# Altium schematic symbol library KXG1201C.SchLib: 1 symbol
Pins are listed as number, name and electrical type; pins without a type are passive.

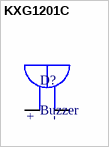
[diagram p0: symbol KXG1201C]

## KXG1201C
designator D?, comment Buzzer
Buzzer - Magnetic Indicator Active Buzzer [Kingstate], Pine Type, Dimensions(mm): 12.00*9.50, Voltage:1.2~3.0, Max current consumption(mA): Max. 30, SPL(dB): Min. 80dB(Typical 85)@10cm, Frequency(KHz): 2.30.; MP: KXG1201C; Package: None; MF: Kingstate; Value: *; Availability: In Stock; SnapEDA_Link: https://www.snapeda.com/parts/KXG1201C/Kingstate/view-part/?ref=snap; Price: None; Check_prices: https://www.snapeda.com/parts/KXG1201C/Kingstate/view-part/?ref=eda
footprint XDCR_KXG1201C
pins: N NEG, P POS
text: +; -